# Altium footprint library LIB-FGPMMOPA6C_PA6C.PcbLib: 1 footprints
Each footprint in its own frame and in the unit in brackets; x right, y up, seen from the top. Pads: shape width x height; smd on the part's side, far side on the other; paste and mask are expansions set on the pad; w line width, h text height; cw(c..) or ccw(c..) is an arc to the next point about the centre after c.
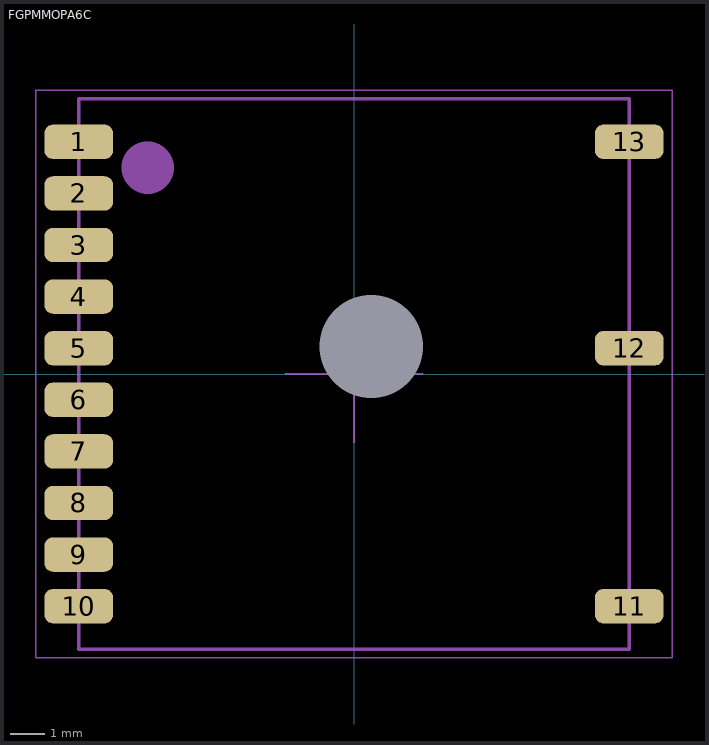
[diagram p0: the footprint, top view; thin cyan lines are the x and y axes]

## FGPMMOPA6C [mm] "GlobalTop PA6C GPS module"
height 6
pads (14):
  rrect50% 2x1 smd: 1(-8,6.75) 2(-8,5.25) 3(-8,3.75) 4(-8,2.25) 5(-8,0.75) 6(-8,-0.75) 7(-8,-2.25) 8(-8,-3.75) 9(-8,-5.25) 10(-8,-6.75) 11(8,-6.75) 12(8,0.75) 13(8,6.75)
  round 0 hole 3 unplated: H1(0.5,0.8)
Assembly Top:
  circle w1.5: c-6,6 r0.01
  lines w0.1: -8,-8 -8,8 8,8 8,-8 -8,-8
  text ".Designator" at -3.25,-0.25 h0.7
Courtyard Top:
  lines w0.05: -2,0 2,0 ; 0,-2 0,2 ; -9.25,-8.25 9.25,-8.25 9.25,8.25 -9.25,8.25 -9.25,-8.25
3D body: height 6, standoff 0, extent -8,-8 8,8